# EAGLE library part MAX4622 (library HyTechDevices)
Maxim Integrated MAX 4622 analogue switch. Data sheet <https://datasheets.maximintegrated.com/en/ds/MAX4621-MAX4623.pdf>
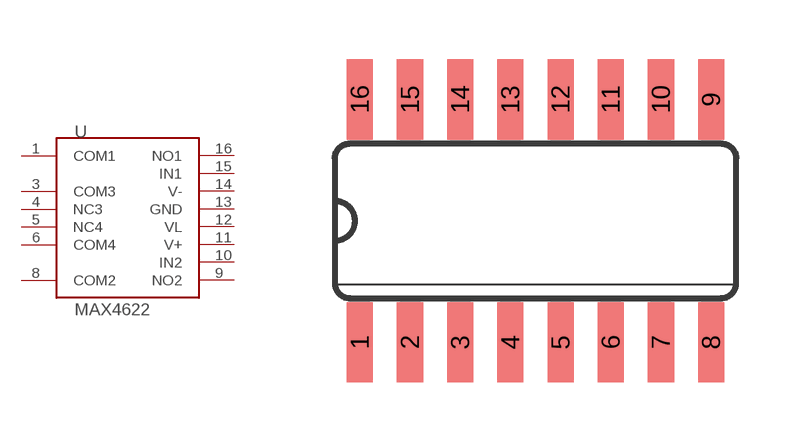
[diagram p111: symbol with the pads of SO16; footprint SO16]

Designator prefix -

## MAX4622  [SO16]
1  COM1
3  COM3
4  NC3
5  NC4
6  COM4
8  COM2
9  NO2
10  IN2
11  V+
12  VL
13  GND
14  V-
15  IN1
16  NO1

## Footprint SO16 (pad centres in mm)
Small Outline package 150 mil
smd 0.66 x 2.032: 1 -4.445,-3.073; 2 -3.175,-3.073; 3 -1.905,-3.073; 4 -0.635,-3.073; 5 0.635,-3.073; 6 1.905,-3.073; 7 3.175,-3.073; 8 4.445,-3.073; 9 4.445,3.073; 10 3.175,3.073; 11 1.905,3.073; 12 0.635,3.073; 13 -0.635,3.073; 14 -1.905,3.073; 15 -3.175,3.073; 16 -4.445,3.073